# Altium footprint library 61304011121-14.PcbLib: 1 footprints
Each footprint in its own frame and in the unit in brackets; x right, y up, seen from the top. Pads: shape width x height; smd on the part's side, far side on the other; paste and mask are expansions set on the pad; w line width, h text height; cw(c..) or ccw(c..) is an arc to the next point about the centre after c.
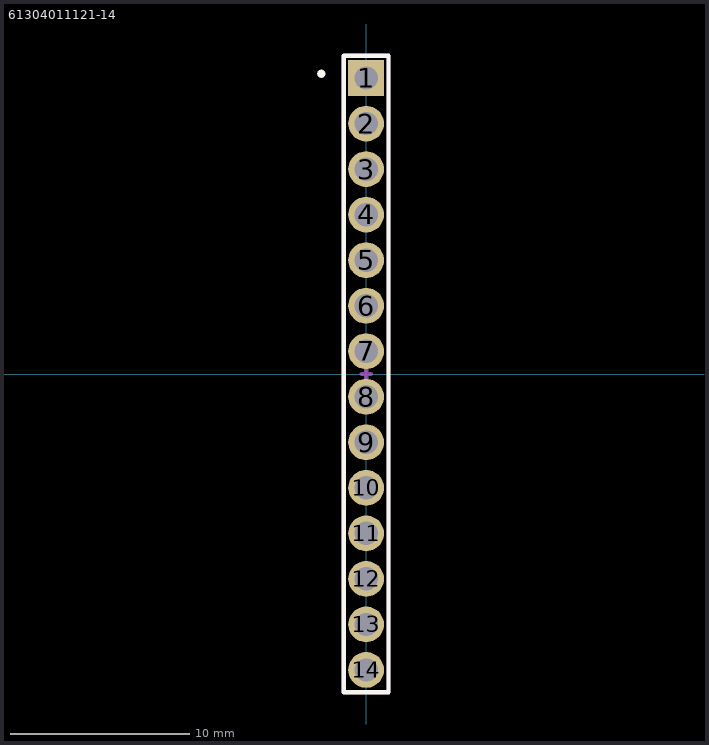
[diagram p0: the footprint, top view; thin cyan lines are the x and y axes]

## 61304011121-14 [mm]
pads (14):
  rect 2x2 hole 1.3 mask+0.051: 1(0,16.51)
  round 2 hole 1.3 mask+0.051: 2(0,13.97) 3(0,11.43) 4(0,8.89) 5(0,6.35) 6(0,3.81) 7(0,1.27) 8(0,-1.27) 9(0,-3.81) 10(0,-6.35) 11(0,-8.89) 12(0,-11.43) 13(0,-13.97) 14(0,-16.51)
Top Overlay:
  circle w0.254: c-2.5,16.75 r0.1
  lines w0.25: -1.25,-17.75 -1.25,17.75 1.25,17.75 1.25,-17.75 -1.25,-17.75
Mechanical 13:
  lines w0.25: -1.25,-17.75 1.25,-17.75 1.25,17.75 -1.25,17.75 -1.25,-17.75
Mechanical 15:
  lines w0.25: -0.25,0 0,0 ; 0,-0.25 0,0 ; 0,0.25 0,0 ; 0.25,0 0,0
3D body "61304011121-14.stp": height 9.27, standoff -2.27, extent -1.27,-17.78 1.27,17.78